# EAGLE library part DRV8837 (library bt_motordriver)
DRV8837 Low Voltage H-Bridge The DRV8837 provides an integrated motor-driver solution for cameras, consumer products, toys, and other low-voltage or battery-powered motion-control applications. The device has one H-bridge driver, and can drive one dc motor or one winding of a stepper motor, as well as other devices like solenoids. Reference: http://www.ti.com/lit/ds/symlink/drv8837.pdf
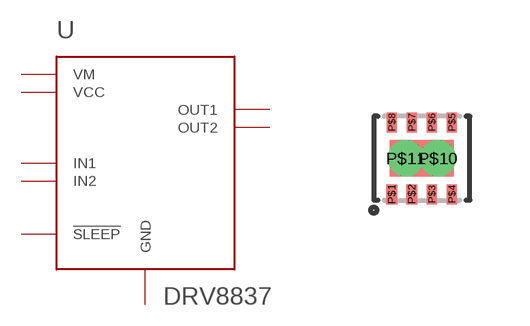
[diagram p2: symbol with the pads of QFN8; footprint QFN8]

Designator prefix -

## DRV8837  [QFN8]
P$1  VM
P$2  OUT1
P$3  OUT2
P$4  GND
P$5  IN2
P$6  IN1
P$7  !SLEEP
P$8  VCC

## Footprint QFN8 (pad centres in mm)
QFN8 with thermal pad
smd 0.28 x 0.5: P$1 -0.75,-0.9; P$2 -0.25,-0.9
smd 0.25 x 0.5: P$3 0.25,-0.9; P$4 0.75,-0.9; P$5 0.75,0.9; P$6 0.25,0.9; P$7 -0.25,0.9; P$8 -0.75,0.9
drill 0.4 pad 0.6: P$10 0.4,0; P$11 -0.4,0